# Altium schematic symbol library libtp1.SchLib: 3 symbols
Pins are listed as number, name and electrical type; pins without a type are passive.

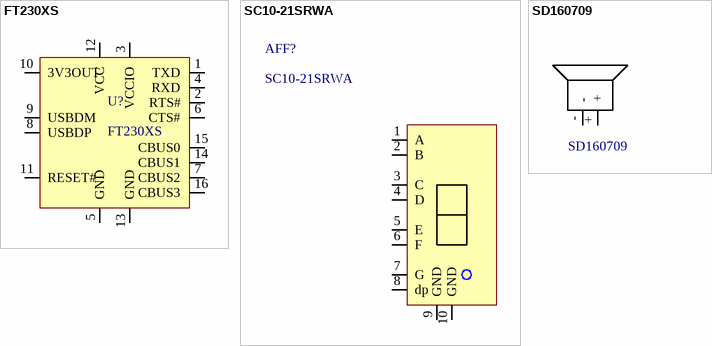
[diagram p0: symbols FT230XS to SD160709]

## FT230XS
designator U?
USB_SERIE
footprint SOP64P600X175-16N (SOP, 16-Leads, Body 4,90x3,90mm, Pitch 0,64mm, IPC Medium Density)
pins: 1 TXD, 2 RTS#, 3 VCCIO, 4 RXD, 5 GND, 6 CTS#, 7 CBUS2, 8 USBDP, 9 USBDM, 10 3V3OUT, 11 RESET#, 12 VCC, 13 GND, 14 CBUS1, 15 CBUS0, 16 CBUS3

## SC10-21SRWA
designator AFF?
7 Segment
pins: 1 A, 2 B, 3 C, 4 D, 5 E, 6 F, 7 G, 8 dp, 9 GND, 10 GND

## SD160709
designator B?, comment Buzzer  Reference: SD160709
Buzzer 5V
footprint SD160709 (Buzzer)
pins: +, -